# Altium footprint library SmartCard.PcbLib: 1 footprints
Each footprint in its own frame and in the unit in brackets; x right, y up, seen from the top. Pads: shape width x height; smd on the part's side, far side on the other; paste and mask are expansions set on the pad; w line width, h text height; cw(c..) or ccw(c..) is an arc to the next point about the centre after c.
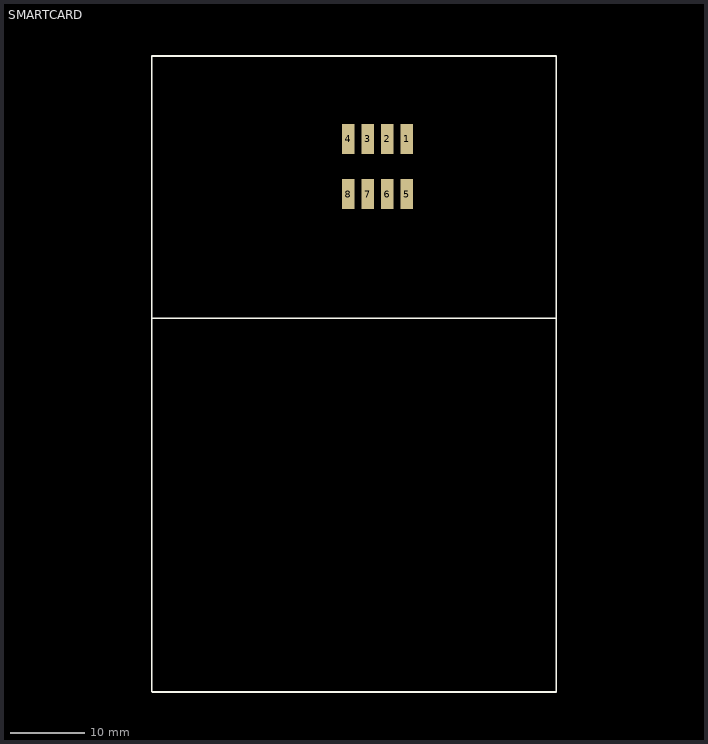
[diagram p0: the footprint, top view; thin cyan lines are the x and y axes]

## SMARTCARD [mm]
height 1
pads (8):
  rect 1.7x4 smd: 1(-859.5,-629.8) 2(-862.1,-629.8) 3(-864.7,-629.8) 4(-867.3,-629.8) 5(-859.5,-637.2) 6(-862.1,-637.2) 7(-864.7,-637.2) 8(-867.3,-637.2)
Top Overlay:
  lines w0.254: -893.6,-703.7 -893.6,-618.7 ; -893.6,-653.8 -839.5,-653.8 ; -893.5,-703.8 -839.5,-703.8 ; -893.5,-618.7 -839.5,-618.7 -839.5,-703.7